# Altium footprint library MediaControllerPcbLib.PcbLib: 28 footprints (part 2 of 2)
Each footprint in its own frame and in the unit in brackets; x right, y up, seen from the top. Pads: shape width x height; smd on the part's side, far side on the other; paste and mask are expansions set on the pad; w line width, h text height; cw(c..) or ccw(c..) is an arc to the next point about the centre after c.
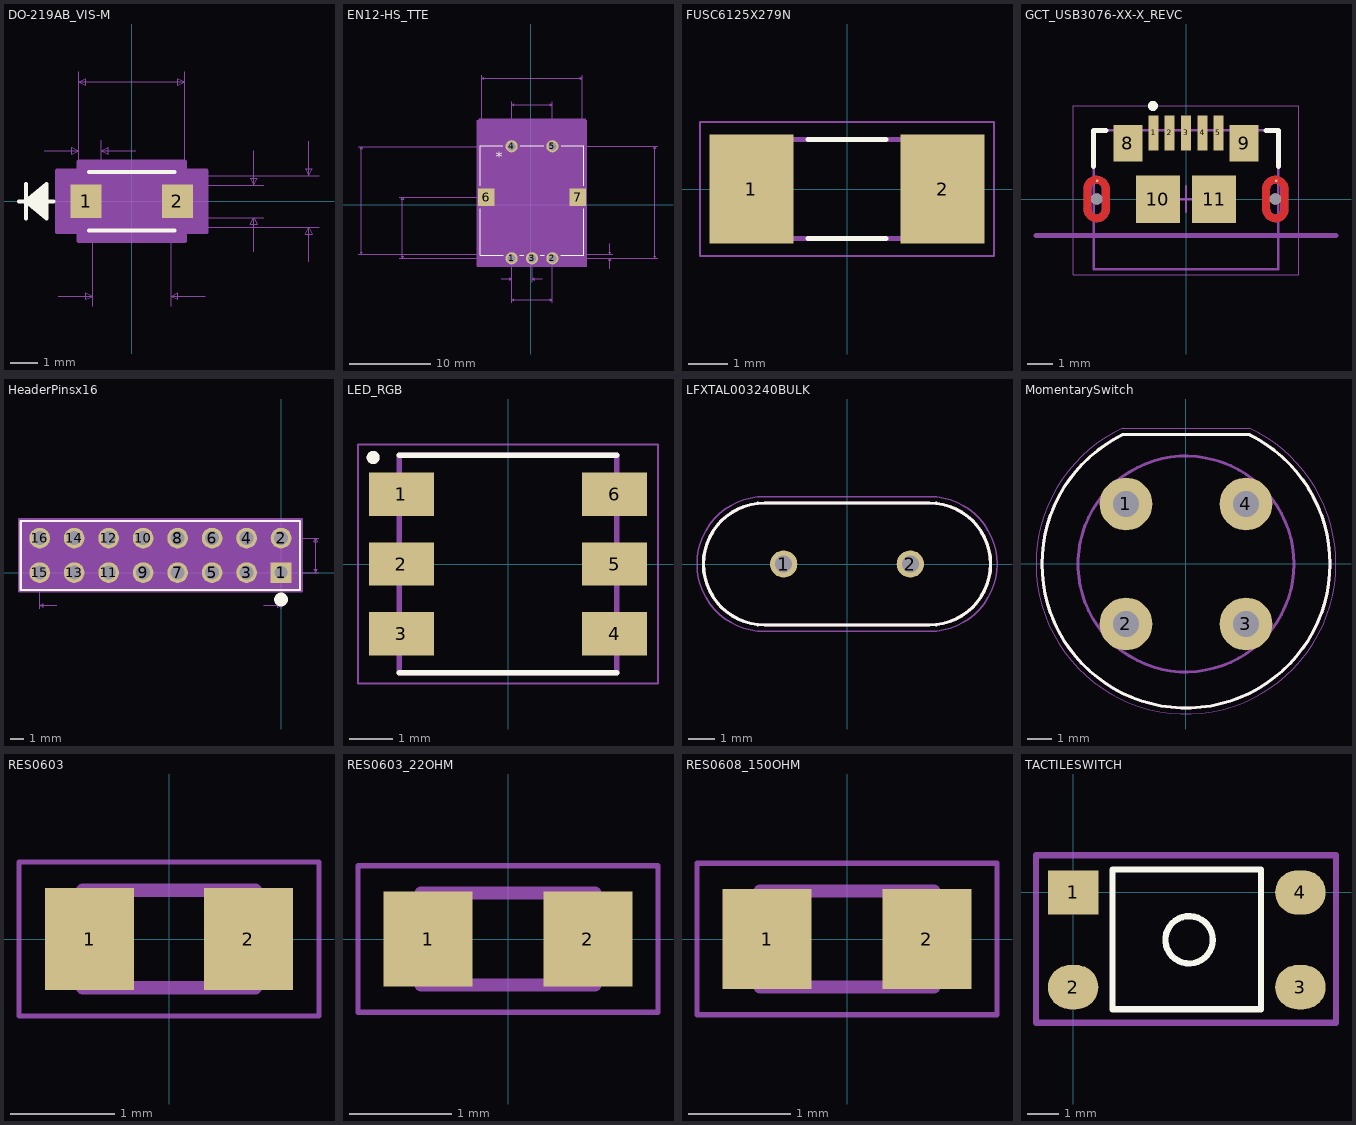
[diagram p1: the footprints below, top view; thin cyan lines are the x and y axes]

## DO-219AB_VIS-M [mm]
pads (2):
  rect 1.138x1.244 smd paste+0 mask+0: 1(-1.687,0) 2(1.687,0)
Top Overlay:
  lines w0.152: -4.161,0 -2.891,0 ; -3.907,-0.635 -3.907,0.635 ; -3.145,-0.508 -3.907,0 ; -3.145,-0.381 -3.907,0 ; -3.145,-0.254 -3.907,0 ; -3.145,-0.127 -3.907,0 ; -3.145,0.127 -3.907,0 ; -3.145,0.254 -3.907,0 ; -3.145,0.381 -3.907,0 ; -3.145,0.508 -3.907,0 ; -1.575,-1.079 1.575,-1.079 ; -1.575,1.079 1.575,1.079 ; -3.907,0 -3.145,0.635 -3.145,-0.635 -3.907,0
Mechanical 5:
  region: 2.446,-1.143 -2.446,-1.143 -2.446,1.143 2.446,1.143
Mechanical 7:
  lines w0.025: -3.226,1.867 -1.956,1.867 ; -2.718,-3.492 -1.448,-3.492 ; -1.956,2.248 -1.956,0 -1.956,4.788 ; -1.448,-3.873 -1.448,0 ; -1.118,0 -1.118,2.248 ; 0,-0.953 6.909,-0.953 ; 0,0.953 6.909,0.953 ; 0.152,1.867 -1.118,1.867 ; 1.448,-3.873 1.448,0 ; 1.956,-0.597 4.877,-0.597 ; 1.956,0 1.956,4.788 ; 1.956,0.597 4.877,0.597 ; 2.718,-3.492 1.448,-3.492 ; 4.496,-1.867 4.496,-0.597 ; 4.496,1.867 4.496,0.597 ; 6.528,-2.222 6.528,-0.953 ; 6.528,2.222 6.528,0.953 ; -1.956,1.867 -2.21,1.994 -2.21,1.74 -1.956,1.867 ; -1.956,4.407 1.956,4.407 ; -1.956,4.407 -1.702,4.534 -1.702,4.28 -1.956,4.407 ; -1.448,-3.492 -1.702,-3.365 -1.702,-3.619 -1.448,-3.492 ; -1.118,1.867 -0.864,1.994 -0.864,1.74 -1.118,1.867 ; 1.448,-3.492 1.702,-3.365 1.702,-3.619 1.448,-3.492 ; 1.956,4.407 1.702,4.534 1.702,4.28 1.956,4.407 ; 4.496,-0.597 4.369,-0.851 4.623,-0.851 4.496,-0.597 ; 4.496,0.597 4.369,0.851 4.623,0.851 4.496,0.597 ; 6.528,-0.953 6.401,-1.206 6.655,-1.206 6.528,-0.953 ; 6.528,0.953 6.401,1.206 6.655,1.206 6.528,0.953
  text "Default Padstyle: r114_124" at -8.255,-8.877 h1.27
  text "Alt 1 Padstyle: b152_229h76" at -8.572,-10.782 h1.27
  text "Alt 2 Padstyle: b229_152h76" at -8.572,-12.687 h1.27
  text "0.154in/3.912mm" at -2.381,4.915 h0.64
  text "0.033in/0.838mm" at -3.918,2.375 h0.64
  text "0.047in/1.194mm" at 5.004,-0.318 h0.64
  text "0.075in/1.905mm" at 7.036,-0.318 h0.64
  text "0.114in/2.896mm" at -2.381,-4.635 h0.64
Mechanical 13:
  lines w0.025: -4.161,0 -2.891,0 ; -3.907,-0.635 -3.907,0.635 ; -3.145,-0.508 -3.907,0 ; -3.145,-0.381 -3.907,0 ; -3.145,-0.254 -3.907,0 ; -3.145,-0.127 -3.907,0 ; -3.145,0.127 -3.907,0 ; -3.145,0.254 -3.907,0 ; -3.145,0.381 -3.907,0 ; -3.145,0.508 -3.907,0 ; -1.448,-0.476 -0.972,-0.953 ; -1.448,0.476 -0.972,0.953 ; -3.907,0 -3.145,0.635 -3.145,-0.635 -3.907,0 ; -1.956,-0.597 -1.956,0.597 -1.448,0.597 -1.448,-0.597 -1.956,-0.597 ; -1.448,-0.953 1.448,-0.953 1.448,0.953 -1.448,0.953 -1.448,-0.953 ; 1.448,-0.597 1.448,0.597 1.956,0.597 1.956,-0.597 1.448,-0.597
Mechanical 15:
  region: -1.956,-1.13 -2.764,-1.13 -2.764,1.13 -1.956,1.13 -1.956,1.46 1.956,1.46 1.956,1.13 2.764,1.13 2.764,-1.13 1.956,-1.13 1.956,-1.46 -1.956,-1.46
  lines w0.152: -2.764,-1.13 -2.764,1.13 -1.956,1.13 -1.956,1.46 1.956,1.46 1.956,1.13 2.764,1.13 2.764,-1.13 1.956,-1.13 1.956,-1.46 -1.956,-1.46 -1.956,-1.13 -2.764,-1.13
3D body: height 0.25, standoff 0, extent 0,0 0.254,0.254
3D body "DO-219AB_VIS.step": height 0.83, standoff 0.01, extent -1.956,-0.952 1.956,0.952

## EN12-HS_TTE [mil]
pads (7):
  round 59 hole 39 mask+0: 1(-91.54,-258.39) 2(105.31,-258.39) 3(6.89,-258.39) 4(-91.54,282.95) 5(105.31,282.95)
  rect 79x83 smd: 6(-213.61,36.61) 7(227.39,36.61)
Top Overlay:
  lines w6: -242.11,-17.99 -242.11,-243.39 -131.41,-243.39 ; -242.11,91.21 -242.11,286.61 -133.98,286.61 ; -51.66,-243.39 -32.98,-243.39 ; -49.09,286.61 62.87,286.61 ; 46.76,-243.39 65.44,-243.39 ; 145.19,-243.39 255.89,-243.39 255.89,-17.99 ; 147.76,286.61 255.89,286.61 255.89,91.21
  text "*" at -168.31,208.66 h50
Mechanical 5:
  region: -251.11,416.61 266.89,416.61 266.89,-300.39 -251.11,-300.39
Mechanical 7:
  lines w1: -834.11,-238.39 -237.11,-238.39 ; -834.11,281.61 -237.11,281.61 -237.11,626.61 ; -634.11,-258.39 -237.11,-258.39 ; -634.11,36.61 -213.61,36.61 ; -141.54,-358.39 -91.54,-358.39 ; -91.54,-473.39 -91.54,-258.39 -91.54,-373.39 ; -91.54,282.95 -91.54,497.95 ; 6.89,-373.39 6.89,-258.39 397.89,-258.39 ; 56.89,-358.39 6.89,-358.39 ; 105.31,-473.39 105.31,-258.39 ; 105.31,497.95 105.31,282.95 615.89,282.95 ; 250.89,-258.39 615.89,-258.39 ; 250.89,-238.39 397.89,-238.39 ; 250.89,281.61 250.89,626.61 ; 382.89,-308.39 382.89,-258.39 ; 382.89,-188.39 382.89,-238.39 ; -819.11,-238.39 -819.11,281.61 ; -819.11,-238.39 -824.11,-228.39 -814.11,-228.39 -819.11,-238.39 ; -819.11,281.61 -824.11,271.61 -814.11,271.61 -819.11,281.61 ; -619.11,-258.39 -619.11,36.61 ; -619.11,-258.39 -624.11,-248.39 -614.11,-248.39 -619.11,-258.39 ; -619.11,36.61 -624.11,26.61 -614.11,26.61 -619.11,36.61 ; -237.11,611.61 250.89,611.61 ; -237.11,611.61 -227.11,616.61 -227.11,606.61 -237.11,611.61 ; -91.54,-458.39 105.31,-458.39 ; -91.54,-458.39 -81.54,-453.39 -81.54,-463.39 -91.54,-458.39 ; -91.54,-358.39 -101.54,-353.39 -101.54,-363.39 -91.54,-358.39 ; -91.54,482.95 105.31,482.95 ; -91.54,482.95 -81.54,487.95 -81.54,477.95 -91.54,482.95 ; 6.89,-358.39 16.89,-353.39 16.89,-363.39 6.89,-358.39 ; 105.31,-458.39 95.31,-453.39 95.31,-463.39 105.31,-458.39 ; 105.31,482.95 95.31,487.95 95.31,477.95 105.31,482.95 ; 250.89,611.61 240.89,616.61 240.89,606.61 250.89,611.61 ; 382.89,-258.39 377.89,-268.39 387.89,-268.39 382.89,-258.39 ; 382.89,-238.39 377.89,-228.39 387.89,-228.39 382.89,-238.39 ; 600.89,-258.39 600.89,282.95 ; 600.89,-258.39 595.89,-248.39 605.89,-248.39 600.89,-258.39 ; 600.89,282.95 595.89,272.95 605.89,272.95 600.89,282.95
  text "Default Padstyle: EX59Y59D39P" at -355.61,-613.39 h50
  text "Mounting Pad 1 Padstyle: RX79Y83D0T" at -430.61,-663.39 h50
  text "Mounting Pad 2 Padstyle: EX58Y58D38P" at -443.11,-713.39 h50
  text "Mounting Pad 3 Padstyle: EX83Y83D63P" at -443.11,-763.39 h50
  text "Top Pad Padstyle: RX118Y91D0T" at -355.61,-813.39 h50
  text "Alt 1 Padstyle: OX60Y90D30P" at -330.61,-863.39 h50
  text "Alt 2 Padstyle: OX90Y60D30P" at -330.61,-913.39 h50
  text "0.02in/0.508mm" at 402.89,-260.89 h25
  text "0.52in/13.208mm" at -1026.61,-0.89 h25
  text "0.295in/7.493mm" at -826.61,-123.39 h25
  text "0.541in/13.75mm" at 620.89,-0.22 h25
  text "0.488in/12.395mm" at -93.11,631.61 h25
  text "0.197in/5mm" at -61.86,502.95 h25
  text "0.098in/2.5mm" at -123.57,-403.39 h25
  text "0.197in/5mm" at -61.86,-503.39 h25
Mechanical 13:
  lines w1: -116.54,-238.39 -91.54,-288.39 -66.54,-238.39 ; -237.11,-238.39 250.89,-238.39 250.89,281.61 -237.11,281.61 -237.11,-238.39
  text "*" at -104.04,207.95 h50
Mechanical 15:
  region: -257.11,409.11 -257.11,-297.89 270.89,-297.89 270.89,409.11
  lines w6: -257.11,-297.89 270.89,-297.89 270.89,409.11 -257.11,409.11 -257.11,-297.89
3D body "en12-hs22af20.stp": height 787.9, standoff -137.29, extent -268.69,-275.62 282.49,299.18

## FUSC6125X279N [mm]
pads (2):
  rect 2.15x2.8 smd: 1(-2.455,0) 2(2.455,0)
Top Overlay:
  lines w0.127: -1,-1.27 1,-1.27 ; -1,1.27 1,1.27
Mechanical 13:
  lines w0.127: -3.05,-1.27 -3.05,1.27 3.05,1.27 3.05,-1.27 -3.05,-1.27
Mechanical 15:
  lines w0.05: -3.78,-1.72 3.78,-1.72 3.78,1.72 -3.78,1.72 -3.78,-1.72
3D body "0679H0500-05.STEP": height 2.55, standoff 0.01, extent -3.05,-1.397 3.05,1.393

## GCT_USB3076-XX-X_REVC [mm]
pads (13):
  rect 0.4x1.4 smd: 1(-1.3,2.65) 2(-0.65,2.65) 3(0,2.65) 4(0.66,2.65) 5(1.3,2.65)
  rect 0.1x0.1 smd paste-1 mask+0: 6(-3.549,0.73) 7(3.601,0.73)
  rect 1.15x1.45 smd: 8(-2.32,2.23) 9(2.32,2.23)
  rect 1.75x1.9 smd: 10(-1.125,0) 11(1.125,0)
  round 0.45 hole 0.45 unplated: ""(-3.575,0) ""(3.575,0)
Top Layer:
  region: 4.1,-0.4 4.099,-0.427 4.097,-0.455 4.094,-0.482 4.089,-0.509 4.082,-0.536 4.074,-0.562 4.065,-0.588 4.055,-0.614 4.043,-0.638 4.03,-0.663 4.015,-0.686 4,-0.709 3.983,-0.73 3.965,-0.751 3.946,-0.771 3.926,-0.79 3.905,-0.808 3.884,-0.825 3.861,-0.84 3.838,-0.855 3.813,-0.868 3.789,-0.88 3.763,-0.89 3.737,-0.899 3.711,-0.907 3.684,-0.914 3.657,-0.919 3.63,-0.922 3.602,-0.924 3.575,-0.925 3.542,-0.923 3.514,-0.919 3.486,-0.914 3.458,-0.907 3.43,-0.899 3.403,-0.889 3.376,-0.878 3.35,-0.866 3.325,-0.852 3.3,-0.837 3.276,-0.82 3.254,-0.803 3.232,-0.784 3.211,-0.764 3.191,-0.743 3.172,-0.721 3.155,-0.699 3.138,-0.675 3.123,-0.65 3.109,-0.625 3.097,-0.599 3.086,-0.572 3.076,-0.545 3.068,-0.517 3.061,-0.489 3.056,-0.461 3.052,-0.433 3.05,-0.404 3.049,-0.375 3.05,-0.35 3.05,0 3.35,0 3.35,-0.4 3.35,-0.412 3.351,-0.424 3.353,-0.435 3.355,-0.447 3.358,-0.458 3.361,-0.47 3.365,-0.481 3.369,-0.492 3.375,-0.502 3.38,-0.513 3.386,-0.523 3.393,-0.532 3.4,-0.542 3.408,-0.551 3.416,-0.559 3.424,-0.567 3.433,-0.575 3.443,-0.582 3.452,-0.589 3.463,-0.595 3.473,-0.6 3.483,-0.606 3.494,-0.61 3.505,-0.614 3.517,-0.617 3.528,-0.62 3.54,-0.622 3.551,-0.624 3.563,-0.625 3.575,-0.625 3.587,-0.625 3.599,-0.624 3.61,-0.622 3.622,-0.62 3.633,-0.617 3.645,-0.614 3.656,-0.61 3.667,-0.606 3.677,-0.6 3.688,-0.595 3.698,-0.589 3.707,-0.582 3.717,-0.575 3.726,-0.567 3.734,-0.559 3.742,-0.551 3.75,-0.542 3.757,-0.532 3.764,-0.523 3.77,-0.513 3.775,-0.502 3.781,-0.492 3.785,-0.481 3.789,-0.47 3.792,-0.458 3.795,-0.447 3.797,-0.435 3.799,-0.424 3.8,-0.412 3.8,-0.4 3.8,0 4.1,0
  region: 3.608,0.923 3.636,0.919 3.664,0.914 3.692,0.907 3.72,0.899 3.747,0.889 3.774,0.878 3.8,0.866 3.825,0.852 3.85,0.837 3.874,0.82 3.896,0.803 3.918,0.784 3.939,0.764 3.959,0.743 3.978,0.721 3.995,0.699 4.012,0.675 4.027,0.65 4.041,0.625 4.053,0.599 4.064,0.572 4.074,0.545 4.082,0.517 4.089,0.489 4.094,0.461 4.098,0.433 4.1,0.404 4.101,0.375 4.1,0.35 4.1,0 3.8,0 3.8,0.4 3.8,0.412 3.799,0.424 3.797,0.435 3.795,0.447 3.792,0.458 3.789,0.47 3.785,0.481 3.781,0.492 3.775,0.502 3.77,0.513 3.764,0.523 3.757,0.532 3.75,0.542 3.742,0.551 3.734,0.559 3.726,0.567 3.717,0.575 3.707,0.582 3.698,0.589 3.688,0.595 3.677,0.6 3.667,0.606 3.656,0.61 3.645,0.614 3.633,0.617 3.622,0.62 3.61,0.622 3.599,0.624 3.587,0.625 3.575,0.625 3.563,0.625 3.551,0.624 3.54,0.622 3.528,0.62 3.517,0.617 3.505,0.614 3.494,0.61 3.483,0.606 3.473,0.6 3.463,0.595 3.452,0.589 3.443,0.582 3.433,0.575 3.424,0.567 3.416,0.559 3.408,0.551 3.4,0.542 3.393,0.532 3.386,0.523 3.38,0.513 3.375,0.502 3.369,0.492 3.365,0.481 3.361,0.47 3.358,0.458 3.355,0.447 3.353,0.435 3.351,0.424 3.35,0.412 3.35,0.4 3.35,0 3.05,0 3.05,0.4 3.051,0.427 3.053,0.455 3.056,0.482 3.061,0.509 3.068,0.536 3.076,0.562 3.085,0.588 3.095,0.614 3.107,0.638 3.12,0.663 3.135,0.686 3.15,0.709 3.167,0.73 3.185,0.751 3.204,0.771 3.224,0.79 3.245,0.808 3.266,0.825 3.289,0.84 3.313,0.855 3.337,0.868 3.361,0.88 3.387,0.89 3.413,0.899 3.439,0.907 3.466,0.914 3.493,0.919 3.52,0.922 3.548,0.924 3.575,0.925
  region: -3.05,-0.4 -3.051,-0.427 -3.053,-0.455 -3.056,-0.482 -3.061,-0.509 -3.068,-0.536 -3.076,-0.562 -3.085,-0.588 -3.095,-0.614 -3.107,-0.638 -3.12,-0.663 -3.135,-0.686 -3.15,-0.709 -3.167,-0.73 -3.185,-0.751 -3.204,-0.771 -3.224,-0.79 -3.245,-0.808 -3.266,-0.825 -3.289,-0.84 -3.313,-0.855 -3.337,-0.868 -3.361,-0.88 -3.387,-0.89 -3.413,-0.899 -3.439,-0.907 -3.466,-0.914 -3.493,-0.919 -3.52,-0.922 -3.548,-0.924 -3.575,-0.925 -3.608,-0.923 -3.636,-0.919 -3.664,-0.914 -3.692,-0.907 -3.72,-0.899 -3.747,-0.889 -3.774,-0.878 -3.8,-0.866 -3.825,-0.852 -3.85,-0.837 -3.874,-0.82 -3.896,-0.803 -3.918,-0.784 -3.939,-0.764 -3.959,-0.743 -3.978,-0.721 -3.995,-0.699 -4.012,-0.675 -4.027,-0.65 -4.041,-0.625 -4.053,-0.599 -4.064,-0.572 -4.074,-0.545 -4.082,-0.517 -4.089,-0.489 -4.094,-0.461 -4.098,-0.433 -4.1,-0.404 -4.101,-0.375 -4.1,-0.35 -4.1,0 -3.8,0 -3.8,-0.4 -3.8,-0.412 -3.799,-0.424 -3.797,-0.435 -3.795,-0.447 -3.792,-0.458 -3.789,-0.47 -3.785,-0.481 -3.781,-0.492 -3.775,-0.502 -3.77,-0.513 -3.764,-0.523 -3.757,-0.532 -3.75,-0.542 -3.742,-0.551 -3.734,-0.559 -3.726,-0.567 -3.717,-0.575 -3.707,-0.582 -3.698,-0.589 -3.688,-0.595 -3.677,-0.6 -3.667,-0.606 -3.656,-0.61 -3.645,-0.614 -3.633,-0.617 -3.622,-0.62 -3.61,-0.622 -3.599,-0.624 -3.587,-0.625 -3.575,-0.625 -3.563,-0.625 -3.551,-0.624 -3.54,-0.622 -3.528,-0.62 -3.517,-0.617 -3.505,-0.614 -3.494,-0.61 -3.483,-0.606 -3.473,-0.6 -3.463,-0.595 -3.452,-0.589 -3.443,-0.582 -3.433,-0.575 -3.424,-0.567 -3.416,-0.559 -3.408,-0.551 -3.4,-0.542 -3.393,-0.532 -3.386,-0.523 -3.38,-0.513 -3.375,-0.502 -3.369,-0.492 -3.365,-0.481 -3.361,-0.47 -3.358,-0.458 -3.355,-0.447 -3.353,-0.435 -3.351,-0.424 -3.35,-0.412 -3.35,-0.4 -3.35,0 -3.05,0
  region: -3.542,0.923 -3.514,0.919 -3.486,0.914 -3.458,0.907 -3.43,0.899 -3.403,0.889 -3.376,0.878 -3.35,0.866 -3.325,0.852 -3.3,0.837 -3.276,0.82 -3.254,0.803 -3.232,0.784 -3.211,0.764 -3.191,0.743 -3.172,0.721 -3.155,0.699 -3.138,0.675 -3.123,0.65 -3.109,0.625 -3.097,0.599 -3.086,0.572 -3.076,0.545 -3.068,0.517 -3.061,0.489 -3.056,0.461 -3.052,0.433 -3.05,0.404 -3.049,0.375 -3.05,0.35 -3.05,0 -3.35,0 -3.35,0.4 -3.35,0.412 -3.351,0.424 -3.353,0.435 -3.355,0.447 -3.358,0.458 -3.361,0.47 -3.365,0.481 -3.369,0.492 -3.375,0.502 -3.38,0.513 -3.386,0.523 -3.393,0.532 -3.4,0.542 -3.408,0.551 -3.416,0.559 -3.424,0.567 -3.433,0.575 -3.443,0.582 -3.452,0.589 -3.463,0.595 -3.473,0.6 -3.483,0.606 -3.494,0.61 -3.505,0.614 -3.517,0.617 -3.528,0.62 -3.54,0.622 -3.551,0.624 -3.563,0.625 -3.575,0.625 -3.587,0.625 -3.599,0.624 -3.61,0.622 -3.622,0.62 -3.633,0.617 -3.645,0.614 -3.656,0.61 -3.667,0.606 -3.677,0.6 -3.688,0.595 -3.698,0.589 -3.707,0.582 -3.717,0.575 -3.726,0.567 -3.734,0.559 -3.742,0.551 -3.75,0.542 -3.757,0.532 -3.764,0.523 -3.77,0.513 -3.775,0.502 -3.781,0.492 -3.785,0.481 -3.789,0.47 -3.792,0.458 -3.795,0.447 -3.797,0.435 -3.799,0.424 -3.8,0.412 -3.8,0.4 -3.8,0 -4.1,0 -4.1,0.4 -4.099,0.427 -4.097,0.455 -4.094,0.482 -4.089,0.509 -4.082,0.536 -4.074,0.562 -4.065,0.588 -4.055,0.614 -4.043,0.638 -4.03,0.663 -4.015,0.686 -4,0.709 -3.983,0.73 -3.965,0.751 -3.946,0.771 -3.926,0.79 -3.905,0.808 -3.884,0.825 -3.861,0.84 -3.838,0.855 -3.813,0.868 -3.789,0.88 -3.763,0.89 -3.737,0.899 -3.711,0.907 -3.684,0.914 -3.657,0.919 -3.63,0.922 -3.602,0.924 -3.575,0.925
Bottom Layer:
  region: 4.1,-0.4 4.099,-0.427 4.097,-0.455 4.094,-0.482 4.089,-0.509 4.082,-0.536 4.074,-0.562 4.065,-0.588 4.055,-0.614 4.043,-0.638 4.03,-0.663 4.015,-0.686 4,-0.709 3.983,-0.73 3.965,-0.751 3.946,-0.771 3.926,-0.79 3.905,-0.808 3.884,-0.825 3.861,-0.84 3.838,-0.855 3.813,-0.868 3.789,-0.88 3.763,-0.89 3.737,-0.899 3.711,-0.907 3.684,-0.914 3.657,-0.919 3.63,-0.922 3.602,-0.924 3.575,-0.925 3.542,-0.923 3.514,-0.919 3.486,-0.914 3.458,-0.907 3.43,-0.899 3.403,-0.889 3.376,-0.878 3.35,-0.866 3.325,-0.852 3.3,-0.837 3.276,-0.82 3.254,-0.803 3.232,-0.784 3.211,-0.764 3.191,-0.743 3.172,-0.721 3.155,-0.699 3.138,-0.675 3.123,-0.65 3.109,-0.625 3.097,-0.599 3.086,-0.572 3.076,-0.545 3.068,-0.517 3.061,-0.489 3.056,-0.461 3.052,-0.433 3.05,-0.404 3.049,-0.375 3.05,-0.35 3.05,0 3.35,0 3.35,-0.4 3.35,-0.412 3.351,-0.424 3.353,-0.435 3.355,-0.447 3.358,-0.458 3.361,-0.47 3.365,-0.481 3.369,-0.492 3.375,-0.502 3.38,-0.513 3.386,-0.523 3.393,-0.532 3.4,-0.542 3.408,-0.551 3.416,-0.559 3.424,-0.567 3.433,-0.575 3.443,-0.582 3.452,-0.589 3.463,-0.595 3.473,-0.6 3.483,-0.606 3.494,-0.61 3.505,-0.614 3.517,-0.617 3.528,-0.62 3.54,-0.622 3.551,-0.624 3.563,-0.625 3.575,-0.625 3.587,-0.625 3.599,-0.624 3.61,-0.622 3.622,-0.62 3.633,-0.617 3.645,-0.614 3.656,-0.61 3.667,-0.606 3.677,-0.6 3.688,-0.595 3.698,-0.589 3.707,-0.582 3.717,-0.575 3.726,-0.567 3.734,-0.559 3.742,-0.551 3.75,-0.542 3.757,-0.532 3.764,-0.523 3.77,-0.513 3.775,-0.502 3.781,-0.492 3.785,-0.481 3.789,-0.47 3.792,-0.458 3.795,-0.447 3.797,-0.435 3.799,-0.424 3.8,-0.412 3.8,-0.4 3.8,0 4.1,0
  region: 3.608,0.923 3.636,0.919 3.664,0.914 3.692,0.907 3.72,0.899 3.747,0.889 3.774,0.878 3.8,0.866 3.825,0.852 3.85,0.837 3.874,0.82 3.896,0.803 3.918,0.784 3.939,0.764 3.959,0.743 3.978,0.721 3.995,0.699 4.012,0.675 4.027,0.65 4.041,0.625 4.053,0.599 4.064,0.572 4.074,0.545 4.082,0.517 4.089,0.489 4.094,0.461 4.098,0.433 4.1,0.404 4.101,0.375 4.1,0.35 4.1,0 3.8,0 3.8,0.4 3.8,0.412 3.799,0.424 3.797,0.435 3.795,0.447 3.792,0.458 3.789,0.47 3.785,0.481 3.781,0.492 3.775,0.502 3.77,0.513 3.764,0.523 3.757,0.532 3.75,0.542 3.742,0.551 3.734,0.559 3.726,0.567 3.717,0.575 3.707,0.582 3.698,0.589 3.688,0.595 3.677,0.6 3.667,0.606 3.656,0.61 3.645,0.614 3.633,0.617 3.622,0.62 3.61,0.622 3.599,0.624 3.587,0.625 3.575,0.625 3.563,0.625 3.551,0.624 3.54,0.622 3.528,0.62 3.517,0.617 3.505,0.614 3.494,0.61 3.483,0.606 3.473,0.6 3.463,0.595 3.452,0.589 3.443,0.582 3.433,0.575 3.424,0.567 3.416,0.559 3.408,0.551 3.4,0.542 3.393,0.532 3.386,0.523 3.38,0.513 3.375,0.502 3.369,0.492 3.365,0.481 3.361,0.47 3.358,0.458 3.355,0.447 3.353,0.435 3.351,0.424 3.35,0.412 3.35,0.4 3.35,0 3.05,0 3.05,0.4 3.051,0.427 3.053,0.455 3.056,0.482 3.061,0.509 3.068,0.536 3.076,0.562 3.085,0.588 3.095,0.614 3.107,0.638 3.12,0.663 3.135,0.686 3.15,0.709 3.167,0.73 3.185,0.751 3.204,0.771 3.224,0.79 3.245,0.808 3.266,0.825 3.289,0.84 3.313,0.855 3.337,0.868 3.361,0.88 3.387,0.89 3.413,0.899 3.439,0.907 3.466,0.914 3.493,0.919 3.52,0.922 3.548,0.924 3.575,0.925
  region: -3.05,-0.4 -3.051,-0.427 -3.053,-0.455 -3.056,-0.482 -3.061,-0.509 -3.068,-0.536 -3.076,-0.562 -3.085,-0.588 -3.095,-0.614 -3.107,-0.638 -3.12,-0.663 -3.135,-0.686 -3.15,-0.709 -3.167,-0.73 -3.185,-0.751 -3.204,-0.771 -3.224,-0.79 -3.245,-0.808 -3.266,-0.825 -3.289,-0.84 -3.313,-0.855 -3.337,-0.868 -3.361,-0.88 -3.387,-0.89 -3.413,-0.899 -3.439,-0.907 -3.466,-0.914 -3.493,-0.919 -3.52,-0.922 -3.548,-0.924 -3.575,-0.925 -3.608,-0.923 -3.636,-0.919 -3.664,-0.914 -3.692,-0.907 -3.72,-0.899 -3.747,-0.889 -3.774,-0.878 -3.8,-0.866 -3.825,-0.852 -3.85,-0.837 -3.874,-0.82 -3.896,-0.803 -3.918,-0.784 -3.939,-0.764 -3.959,-0.743 -3.978,-0.721 -3.995,-0.699 -4.012,-0.675 -4.027,-0.65 -4.041,-0.625 -4.053,-0.599 -4.064,-0.572 -4.074,-0.545 -4.082,-0.517 -4.089,-0.489 -4.094,-0.461 -4.098,-0.433 -4.1,-0.404 -4.101,-0.375 -4.1,-0.35 -4.1,0 -3.8,0 -3.8,-0.4 -3.8,-0.412 -3.799,-0.424 -3.797,-0.435 -3.795,-0.447 -3.792,-0.458 -3.789,-0.47 -3.785,-0.481 -3.781,-0.492 -3.775,-0.502 -3.77,-0.513 -3.764,-0.523 -3.757,-0.532 -3.75,-0.542 -3.742,-0.551 -3.734,-0.559 -3.726,-0.567 -3.717,-0.575 -3.707,-0.582 -3.698,-0.589 -3.688,-0.595 -3.677,-0.6 -3.667,-0.606 -3.656,-0.61 -3.645,-0.614 -3.633,-0.617 -3.622,-0.62 -3.61,-0.622 -3.599,-0.624 -3.587,-0.625 -3.575,-0.625 -3.563,-0.625 -3.551,-0.624 -3.54,-0.622 -3.528,-0.62 -3.517,-0.617 -3.505,-0.614 -3.494,-0.61 -3.483,-0.606 -3.473,-0.6 -3.463,-0.595 -3.452,-0.589 -3.443,-0.582 -3.433,-0.575 -3.424,-0.567 -3.416,-0.559 -3.408,-0.551 -3.4,-0.542 -3.393,-0.532 -3.386,-0.523 -3.38,-0.513 -3.375,-0.502 -3.369,-0.492 -3.365,-0.481 -3.361,-0.47 -3.358,-0.458 -3.355,-0.447 -3.353,-0.435 -3.351,-0.424 -3.35,-0.412 -3.35,-0.4 -3.35,0 -3.05,0
  region: -3.542,0.923 -3.514,0.919 -3.486,0.914 -3.458,0.907 -3.43,0.899 -3.403,0.889 -3.376,0.878 -3.35,0.866 -3.325,0.852 -3.3,0.837 -3.276,0.82 -3.254,0.803 -3.232,0.784 -3.211,0.764 -3.191,0.743 -3.172,0.721 -3.155,0.699 -3.138,0.675 -3.123,0.65 -3.109,0.625 -3.097,0.599 -3.086,0.572 -3.076,0.545 -3.068,0.517 -3.061,0.489 -3.056,0.461 -3.052,0.433 -3.05,0.404 -3.049,0.375 -3.05,0.35 -3.05,0 -3.35,0 -3.35,0.4 -3.35,0.412 -3.351,0.424 -3.353,0.435 -3.355,0.447 -3.358,0.458 -3.361,0.47 -3.365,0.481 -3.369,0.492 -3.375,0.502 -3.38,0.513 -3.386,0.523 -3.393,0.532 -3.4,0.542 -3.408,0.551 -3.416,0.559 -3.424,0.567 -3.433,0.575 -3.443,0.582 -3.452,0.589 -3.463,0.595 -3.473,0.6 -3.483,0.606 -3.494,0.61 -3.505,0.614 -3.517,0.617 -3.528,0.62 -3.54,0.622 -3.551,0.624 -3.563,0.625 -3.575,0.625 -3.587,0.625 -3.599,0.624 -3.61,0.622 -3.622,0.62 -3.633,0.617 -3.645,0.614 -3.656,0.61 -3.667,0.606 -3.677,0.6 -3.688,0.595 -3.698,0.589 -3.707,0.582 -3.717,0.575 -3.726,0.567 -3.734,0.559 -3.742,0.551 -3.75,0.542 -3.757,0.532 -3.764,0.523 -3.77,0.513 -3.775,0.502 -3.781,0.492 -3.785,0.481 -3.789,0.47 -3.792,0.458 -3.795,0.447 -3.797,0.435 -3.799,0.424 -3.8,0.412 -3.8,0.4 -3.8,0 -4.1,0 -4.1,0.4 -4.099,0.427 -4.097,0.455 -4.094,0.482 -4.089,0.509 -4.082,0.536 -4.074,0.562 -4.065,0.588 -4.055,0.614 -4.043,0.638 -4.03,0.663 -4.015,0.686 -4,0.709 -3.983,0.73 -3.965,0.751 -3.946,0.771 -3.926,0.79 -3.905,0.808 -3.884,0.825 -3.861,0.84 -3.838,0.855 -3.813,0.868 -3.789,0.88 -3.763,0.89 -3.737,0.899 -3.711,0.907 -3.684,0.914 -3.657,0.919 -3.63,0.922 -3.602,0.924 -3.575,0.925
Top Overlay:
  circle w0.2: c-1.325,3.725 r0.102
  lines w0.2: -3.7,1.305 -3.7,2.75 -3.2,2.75 ; 3.2,2.75 3.7,2.75 3.7,1.295
Top Paste:
  drawing of 8 lines, arcs and shapes, not listed
Bottom Paste:
  drawing of 8 lines, arcs and shapes, not listed
Top Solder:
  region: 4.301,-1.152 2.856,-1.152 2.856,1.15 4.301,1.15
  region: -2.849,-1.151 -4.304,-1.151 -4.304,1.15 -2.849,1.15
Bottom Solder:
  region: 4.301,-1.151 2.854,-1.151 2.854,1.15 4.301,1.15
  region: -2.849,-1.152 -4.307,-1.152 -4.307,1.15 -2.849,1.15
Mechanical 1:
  lines w0: -3.35,0.402 ccw(c-3.574,0.402) -3.574,0.626 ccw(c-3.575,0.401) -3.8,0.401 -3.8,-0.4 ccw(c-3.575,-0.4) -3.575,-0.625 ccw(c-3.575,-0.4) -3.35,-0.4 -3.35,0.402 ; 3.8,0.402 ccw(c3.575,0.402) 3.575,0.626 ccw(c3.575,0.401) 3.35,0.401 3.35,-0.4 ccw(c3.575,-0.4) 3.575,-0.625 ccw(c3.575,-0.4) 3.8,-0.4 3.8,0.402
Mechanical 13:
  lines w0.1: -3.7,-2.8 -3.7,2.75 3.7,2.75 3.7,-2.8 -3.7,-2.8
  lines w0.2: -6,-1.45 6,-1.45
  text "PCB Edge" at -1.908,-2.57 h0.67
Mechanical 15:
  lines w0.05: -4.5,-3.025 -4.5,3.725 4.5,3.725 4.5,-3.025 -4.5,-3.025
  lines w0.1: -0.508,0 0.508,0 ; 0,-0.508 0,0.508
3D body "USB3076-30-A--3DModel-STEP-56544.STEP": height 2.67, standoff -0.99, extent -3.7,-2.775 3.7,2.775

## HeaderPinsx16 [mil]
pads (16):
  rect 60x60 hole 38 mask+0: 1(0,0)
  round 60 hole 40 mask+0: 2(0,100) 3(-100,0) 4(-100,100) 5(-200,0) 6(-200,100) 7(-300,0) 8(-300,100) 9(-400,0) 10(-400,100) 11(-500,0) 12(-500,100) 13(-600,0) 14(-600,100) 15(-700,0) 16(-700,100)
Top Overlay:
  circle w20: c0,-78 r10
  lines w6: -755,-50 55,-50 55,150 -755,150 -755,-50
Mechanical 5:
  region: 57.5,-52.5 -757.5,-52.5 -757.5,152.5 57.5,152.5
Mechanical 7:
  lines w1: -700,-105 -700,-40 ; -650,-95 -700,-95 ; -50,-95 0,-95 ; 0,-105 0,-40 ; 40,0 110,0 ; 40,100 110,100 ; -700,-95 -690,-100 -690,-90 -700,-95 ; 0,-95 -10,-100 -10,-90 0,-95 ; 100,0 100,100 ; 100,0 95,10 105,10 100,0 ; 100,100 95,90 105,90 100,100
  text "Default Padstyle: c152h102" at -675,-245 h50
  text "Pin 1 Padstyle: s152h102" at -650,-345 h50
  text "Alt 1 Padstyle: b152_229h76" at -687.5,-445 h50
  text "Alt 2 Padstyle: b229_152h76" at -687.5,-545 h50
  text ".7in/17.78mm (8 @ .1in/3mm)" at -518.75,-120 h25
Mechanical 13:
  circle w0: c0,-30 r10
  lines w1: -750,-45 50,-45 50,145 -750,145 -750,-45
Mechanical 15:
  region: 60,155 -760,155 -760,-55 60,-55
  lines w6: -760,-55 -760,155 60,155 60,-55 -760,-55
3D body: height 10, standoff 0, extent 0,0 10,10
3D body "67996-416HLF_AMP.step": height 350.5, standoff -199.5, extent -750.01,-50 49.99,150

## LED_RGB [mm]
pads (6):
  rect 1.5x1 smd: 1(-2.45,1.6) 2(-2.45,0) 3(-2.45,-1.6) 4(2.45,-1.6) 5(2.45,0) 6(2.45,1.6)
Top Overlay:
  circle w0.2: c-3.1,2.45 r0.05
  lines w0.127: -2.5,-2.5 2.5,-2.5 ; -2.5,2.5 2.5,2.5
Mechanical 13:
  circle w0.2: c-3.1,2.45 r0.05
  lines w0.127: -2.5,-2.5 -2.5,2.5 2.5,2.5 2.5,-2.5 -2.5,-2.5
Mechanical 15:
  lines w0.05: -3.45,-2.75 3.45,-2.75 3.45,2.75 -3.45,2.75 -3.45,-2.75
3D body "COM-11821--3DModel-STEP-56544.STEP": height 1.76, standoff 0.01, extent -2.7,-2.5 2.7,2.5

## LFXTAL003240BULK [mm] "CRYSTAL 16.0000MHZ 30PF TH"
pads (2):
  round 1.05 hole 0.65: 1(-2.44,0) 2(2.44,0)
Top Overlay:
  lines w0.127: -3.18,-2.35 cw(c-3.18,0) -3.18,2.35 3.18,2.35 cw(c3.18,0) 3.18,-2.35 -3.18,-2.35
Mechanical 13:
  lines w0.127: -3.18,-2.35 cw(c-3.18,0) -3.18,2.35 3.18,2.35 cw(c3.18,0) 3.18,-2.35 -3.18,-2.35
Mechanical 15:
  lines w0.05: -3.18,-2.6 cw(c-3.18,0) -3.18,2.6 3.18,2.6 cw(c3.18,0) 3.18,-2.6 -3.18,-2.6
3D body "LFXTAL003240BULK--3DModel-STEP-56544.STEP": height 4.11, standoff -12.69, extent -5.525,-2.35 5.525,2.35

## MomentarySwitch [mm]
pads (4):
  round 2.2 hole 1.1: 1(-2.5,2.5) 2(-2.5,-2.5) 3(2.5,-2.5) 4(2.5,2.5)
Top Overlay:
  lines w0.127: -2.63,5.393 ccw(c0.001,-0.001) -6,-0.001 ccw(c0,0) 6,0 ; -2.615,5.4 2.615,5.4 ; 2.628,5.393 cw(c-0.003,-0.002) 6,-0.002
Mechanical 13:
  circle w0.127: c0,0 r4.5
  lines w0.127: -2.63,5.393 ccw(c0.001,-0.001) -6,-0.001 ccw(c0,0) 6,0 ; -2.615,5.4 2.615,5.4 ; 2.628,5.393 cw(c-0.003,-0.002) 6,-0.002
Mechanical 15:
  lines w0.05: -2.672,5.65 2.672,5.65 ; -2.641,5.664 ccw(c0,0) -6.25,0 ccw(c0,0) 6.25,0 ; 2.642,5.664 cw(c0.002,0.001) 6.25,0.001

## RES0603 [mm]
pads (2):
  rect 0.86x0.98 smd: 1(-0.765,0) 2(0.765,0)
Mechanical 13:
  lines w0.127: -0.83,-0.47 0.83,-0.47 0.83,0.47 -0.83,0.47 -0.83,-0.47
Mechanical 15:
  lines w0.05: -1.444,-0.74 1.444,-0.74 1.444,0.74 -1.444,0.74 -1.444,-0.74
3D body "RCG060310K0JNEA.STEP": height 0.51, standoff 0.01, extent -0.775,-0.425 0.775,0.425

## RES0603_22OHM [mm]
pads (2):
  rect 0.87x0.93 smd: 1(-0.78,0) 2(0.78,0)
Mechanical 13:
  lines w0.127: -0.85,-0.45 0.85,-0.45 0.85,0.45 -0.85,0.45 -0.85,-0.45
Mechanical 15:
  lines w0.05: -1.465,-0.715 1.465,-0.715 1.465,0.715 -1.465,0.715 -1.465,-0.715
3D body "step_temp.STEP": height 0.55, standoff 0, extent -0.8,-0.4 0.8,0.4

## RES0608_150OHM [mm]
pads (2):
  rect 0.87x0.98 smd: 1(-0.78,0) 2(0.78,0)
Mechanical 13:
  lines w0.127: -0.85,-0.47 -0.85,0.47 0.85,0.47 0.85,-0.47 -0.85,-0.47
Mechanical 15:
  lines w0.05: -1.465,-0.74 -1.465,0.74 1.465,0.74 1.465,-0.74 -1.465,-0.74
3D body "CRCW0603150RFKEAHP.STEP": height 0.56, standoff 0.01, extent -0.8,-0.425 0.8,0.425

## TACTILESWITCH [mm]
pads (4):
  rect 1.6x1.4 smd: 1(0,0)
  oval 1.6x1.4 smd: 2(0,-3) 3(7.2,-3) 4(7.2,0)
Top Overlay:
  circle w0.2: c3.675,-1.5 r0.75
  lines w0.2: 1.25,-3.7 5.95,-3.7 5.95,0.725 1.25,0.725 1.25,-3.7
Mechanical 5:
  lines w0.2: -1.175,-4.125 8.325,-4.125 8.325,1.175 -1.175,1.175 -1.175,-4.125
3D body "TL3305AFxxxxG.stp": height 3.7, standoff -0.1, extent -0.1,-3.75 7.4,0.75